# Altium footprint library FlatBoards.PcbLib: 19 footprints (part 1 of 2)
Each footprint in its own frame and in the unit in brackets; x right, y up, seen from the top. Pads: shape width x height; smd on the part's side, far side on the other; paste and mask are expansions set on the pad; w line width, h text height; cw(c..) or ccw(c..) is an arc to the next point about the centre after c.
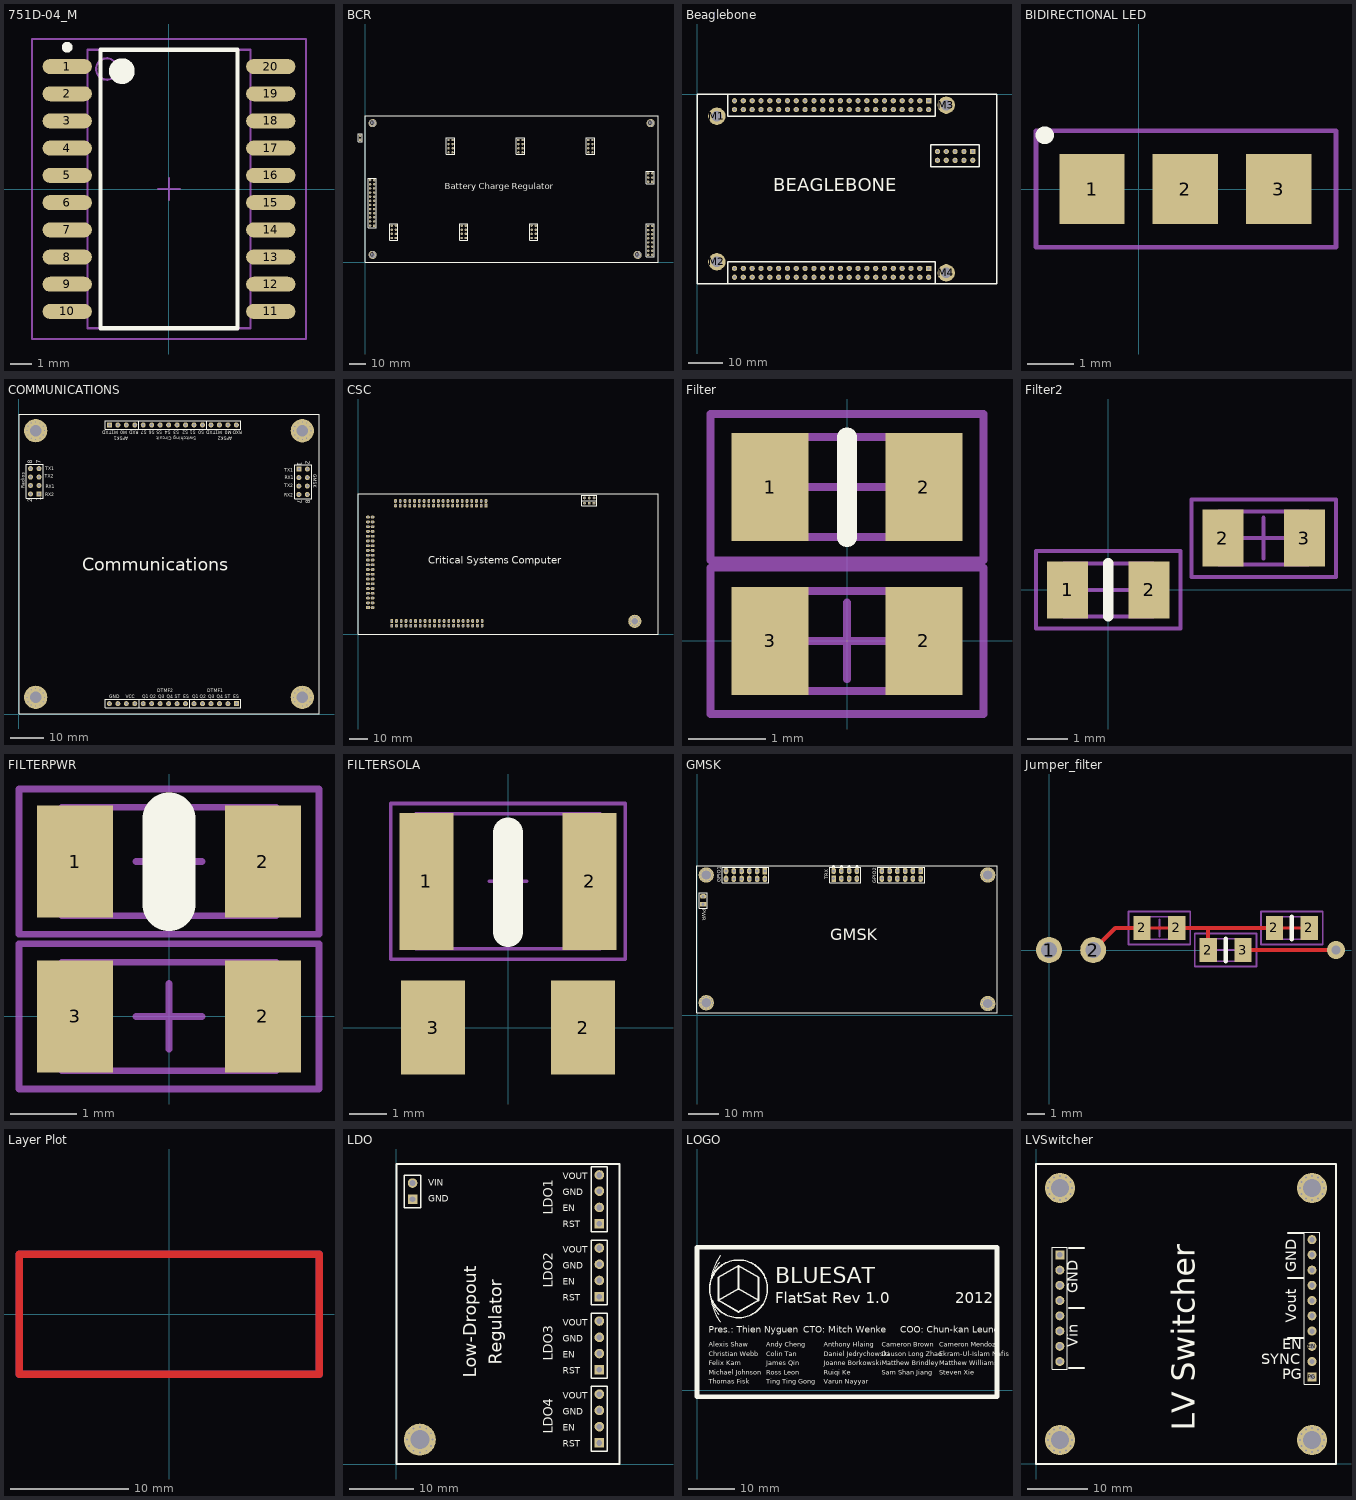
[diagram p0: the footprints below, top view; thin cyan lines are the x and y axes]

## 751D-04_M [mm] "SOIC, 20-Leads, Body 12.8x7.5mm, Pitch 1.27mm, IPC Low Density"
height 2.65
pads (20):
  oval 2.3x0.7 smd: 1(-4.75,5.715) 2(-4.75,4.445) 3(-4.75,3.175) 4(-4.75,1.905) 5(-4.75,0.635) 6(-4.75,-0.635) 7(-4.75,-1.905) 8(-4.75,-3.175) 9(-4.75,-4.445) 10(-4.75,-5.715) 11(4.75,-5.715) 12(4.75,-4.445) 13(4.75,-3.175) 14(4.75,-1.905) 15(4.75,-0.635) 16(4.75,0.635) 17(4.75,1.905) 18(4.75,3.175) 19(4.75,4.445) 20(4.75,5.715)
Top Overlay:
  circle w0.6: c-2.2,5.5 r0.3
  circle w0.25: c-4.75,6.615 r0.125
  lines w0.2: -3.2,-6.5 3.2,-6.5 3.2,6.5 -3.2,6.5 -3.2,-6.5
Mechanical 13:
  circle w0.1: c-2.9,5.6 r0.5
  lines w0.1: -3.8,-6.5 3.8,-6.5 3.8,6.5 -3.8,6.5 -3.8,-6.5
Mechanical 15:
  lines w0.1: -0.5,0 0.5,0 ; 0,-0.5 0,0.5 ; -6.4,-7 6.4,-7 6.4,7 -6.4,7 -6.4,-7
3D body: height 2.65, standoff 0, extent -3.8,-6.5 3.8,6.5

## BCR [mm]
pads (148):
  round 1 hole 0.3: 0(2.5,4.5) 0(2.5,85.5) 0(2.768,3.5) 0(2.768,5.5) 0(2.768,84.5) 0(2.768,86.5) 0(3.5,2.768) 0(3.5,6.232) 0(3.5,83.768) 0(3.5,87.232) 0(4.5,2.5) 0(4.5,6.5) 0(4.5,83.5) 0(4.5,87.5) 0(5.5,2.768) 0(5.5,6.232) 0(5.5,83.768) 0(5.5,87.232) 0(6.232,3.5) 0(6.232,5.5) 0(6.232,84.5) 0(6.232,86.5) 0(6.5,4.5) 0(6.5,85.5) 0(165.5,4.5) 0(165.768,3.5) 0(165.768,5.5) 0(166.5,2.768) 0(166.5,6.232) 0(167.5,2.5) 0(167.5,6.5) 0(168.5,2.768) 0(168.5,6.232) 0(169.232,3.5) 0(169.232,5.5) 0(169.5,4.5) 0(173.5,85.5) 0(173.768,84.5) 0(173.768,86.5) 0(174.5,83.768) 0(174.5,87.232) 0(175.5,83.5) 0(175.5,87.5) 0(176.5,83.768) 0(176.5,87.232) 0(177.232,84.5) 0(177.232,86.5) 0(177.5,85.5)
  round 5 hole 3: 0(4.5,4.5) 0(4.5,85.5) 0(167.5,4.5) 0(175.5,85.5)
  round 1.5 hole 0.9: 1(173.96,49.5) 1(176.5,4.5) 2(173.96,4.5) 3(173.96,54.58) 3(173.96,7.04) 3(173.96,9.58) 3(173.96,12.12) 3(173.96,14.66) 3(173.96,17.2) 3(173.96,19.74) 3(173.96,22.28) 4(176.5,54.58) 4(176.5,22.28) 5(176.5,14.66) 6(176.5,12.12) 7(176.5,9.58) 8(176.5,7.04) 9(176.5,17.2) 10(176.5,19.74) 11(5.5,35.2) 11(5.5,37.74) 11(5.5,40.28) 11(5.5,42.82) 11(5.5,45.36) 11(5.5,47.9) 11(5.5,50.44) 13(5.5,25.04) 13(5.5,27.58) 13(5.5,30.12) 13(5.5,32.66) 14(-3.2,77.79) 14(2.96,22.5) 14(2.96,25.04) 14(2.96,27.58) 14(2.96,30.12) 14(2.96,32.66) 14(2.96,35.2) 14(2.96,37.74) 14(2.96,40.28) 14(2.96,42.82) 14(2.96,45.36) 14(2.96,47.9) 14(2.96,50.44) 15(61.834,17.407) 15(61.834,19.947) 15(61.834,22.487) 16(59.294,17.407) 16(59.294,19.947) 16(59.294,22.487) 17(59.294,14.867) 18(104.834,17.407) 18(104.834,19.947) 18(104.834,22.487) 19(102.294,17.407) 19(102.294,19.947) 19(102.294,22.487) 20(102.294,14.867) 21(18.834,17.407) 21(18.834,19.947) 21(18.834,22.487) 22(16.294,17.407) 22(16.294,19.947) 22(16.294,22.487) 23(16.294,14.867) 24(94.166,67.513) 24(94.166,70.053) 24(94.166,72.593) 25(96.706,67.513) 25(96.706,70.053) 25(96.706,72.593) 26(96.706,75.133) 27(51.166,67.513) 27(51.166,70.053) 27(51.166,72.593) 28(53.706,67.513) 28(53.706,70.053) 28(53.706,72.593) 29(53.706,75.133) 30(137.166,67.513) 30(137.166,70.053) 30(137.166,72.593) 31(139.706,67.513) 31(139.706,70.053) 31(139.706,72.593) 32(139.706,75.133) 34(176.5,52.04) 35(173.96,52.04)
  rect 1.5x1.5 hole 0.9: 12(-3.2,75.25) 13(5.5,22.5) 15(61.834,14.867) 18(104.834,14.867) 21(18.834,14.867) 24(94.166,75.133) 27(51.166,75.133) 30(137.166,75.133) 33(176.5,49.5)
Top Overlay:
  lines w0.2: 177.77,50.982 177.77,55.85 ; 177.77,55.85 177.77,48.23 172.69,48.23 172.69,55.85 177.77,55.85 ; -4.47,73.98 -4.47,79.06 -1.93,79.06 -1.93,73.98 -4.47,73.98 ; 1.69,21.23 6.77,21.23 6.77,51.71 1.69,51.71 1.69,21.23 ; 15.024,13.597 15.024,23.757 20.104,23.757 20.104,13.597 15.024,13.597 ; 49.896,66.243 49.896,76.403 54.976,76.403 54.976,66.243 49.896,66.243 ; 58.024,13.597 58.024,23.757 63.104,23.757 63.104,13.597 58.024,13.597 ; 92.896,66.243 92.896,76.403 97.976,76.403 97.976,66.243 92.896,66.243 ; 101.024,13.597 101.024,23.757 106.104,23.757 106.104,13.597 101.024,13.597 ; 135.896,66.243 135.896,76.403 140.976,76.403 140.976,66.243 135.896,66.243 ; 172.69,3.23 177.77,3.23 177.77,23.55 172.69,23.55 172.69,3.23
  lines w0.254: 0,0 0,90 180,90 180,0 0,0
  text "Battery Charge Regulator" at 49,45 h3.81
Bottom Overlay:
  lines w0.254: 0,0 180,0 180,90 0,90 0,0
  text "Battery Charge Regulator" at 137,45 h3.81

## Beaglebone [mil]
pads (106):
  rect 60x60 hole 31.5 mask+2.76: A01(2625,-75) B01(2625,-1975) P01(3125,-650)
  round 60 hole 31.5 mask+2.76: A02(2625,-175) A03(2525,-75) A04(2525,-175) A05(2425,-75) A06(2425,-175) A07(2325,-75) A08(2325,-175) A09(2225,-75) A10(2225,-175) A11(2125,-75) A12(2125,-175) A13(2025,-75) A14(2025,-175) A15(1925,-75) A16(1925,-175) A17(1825,-75) A18(1825,-175) A19(1725,-75) A20(1725,-175) A21(1625,-75) A22(1625,-175) A23(1525,-75) A24(1525,-175) A25(1425,-75) A26(1425,-175) A27(1325,-75) A28(1325,-175) A29(1225,-75) A30(1225,-175) A31(1125,-75) A32(1125,-175) A33(1025,-75) A34(1025,-175) A35(925,-75) A36(925,-175) A37(825,-75) A38(825,-175) A39(725,-75) A40(725,-175) A41(625,-75) A42(625,-175) A43(525,-75) A44(525,-175) A45(425,-75) A46(425,-175) B02(2625,-2075) B03(2525,-1975) B04(2525,-2075) B05(2425,-1975) B06(2425,-2075) B07(2325,-1975) B08(2325,-2075) B09(2225,-1975) B10(2225,-2075) B11(2125,-1975) B12(2125,-2075) B13(2025,-1975) B14(2025,-2075) B15(1925,-1975) B16(1925,-2075) B17(1825,-1975) B18(1825,-2075) B19(1725,-1975) B20(1725,-2075) B21(1625,-1975) B22(1625,-2075) B23(1525,-1975) B24(1525,-2075) B25(1425,-1975) B26(1425,-2075) B27(1325,-1975) B28(1325,-2075) B29(1225,-1975) B30(1225,-2075) B31(1125,-1975) B32(1125,-2075) B33(1025,-1975) B34(1025,-2075) B35(925,-1975) B36(925,-2075) B37(825,-1975) B38(825,-2075) B39(725,-1975) B40(725,-2075) B41(625,-1975) B42(625,-2075) B43(525,-1975) B44(525,-2075) B45(425,-1975) B46(425,-2075) P02(3125,-750) P03(3025,-650) P04(3025,-750) P05(2925,-650) P06(2925,-750) P07(2825,-650) P08(2825,-750) P09(2725,-650) P10(2725,-750)
  round 196.85 hole 122.05 mask+2.76: M1(225,-250) M2(225,-1900) M3(2825,-125) M4(2825,-2025)
Top Overlay:
  lines w15.75: 350,-2150 350,-1900 2700,-1900 2700,-2150 ; 350,0 350,-250 2700,-250 2700,0 ; 0,-2150 3400,-2150 3400,0 0,0 0,-2150 ; 2650,-825 3200,-825 3200,-575 2650,-575 2650,-825
  text "BEAGLEBONE" at 866.14,-1102.36 h150
Bottom Overlay:
  lines w15.75: 0,-2150 0,0 3400,0 3400,-2150 0,-2150
  text "BEAGLEBONE" at 2322.83,-1102.36 h150

## BIDIRECTIONAL LED [mm]
height 0.7
pads (3):
  rect 1.4x1.5 smd: 1(-1,0) 2(1,0) 3(3,0)
Top Overlay:
  lines w0.381: -2.025,1.15 -2,1.15
Mechanical 15:
  lines w0.1: 2.2,1.25 -2.2,1.25 -2.2,-1.25 4.225,-1.25
  lines w0.102: 2.15,1.25 4.225,1.25 4.225,-1.25

## COMMUNICATIONS [mm] "Communications"
pads (100):
  round 1.5 hole 0.9: AFSK1_M0(32.192,86.733) AFSK1_M1(29.652,86.733) AFSK1_RXD(34.732,86.733) AFSK2_M0(62.672,86.733) AFSK2_M1(60.132,86.733) AFSK2_RXD(65.212,86.733) AFSK2_TXD(57.592,86.733) DTMF1_Q1(52.512,3.113) DTMF1_Q2(55.052,3.113) DTMF1_Q3(57.592,3.113) DTMF1_Q4(60.132,3.113) DTMF1_ST(62.672,3.113) DTMF2_ES(49.972,3.113) DTMF2_Q1(37.272,3.113) DTMF2_Q2(39.812,3.113) DTMF2_Q3(42.352,3.113) DTMF2_Q4(44.892,3.113) DTMF2_ST(47.432,3.113) GMSK_RX1(83.952,70.923) GMSK_RX2(83.952,65.843) GMSK_TX2(83.952,68.383) GND(3.462,66.013) GND(3.462,68.553) GND(3.462,71.093) GND(3.462,73.633) GND(27.112,3.113) GND(29.652,3.113) GND(86.492,65.843) GND(86.492,68.383) GND(86.492,70.923) GND(86.492,73.463) RX1(6.002,68.553) S0(55.052,86.733) S1(52.512,86.733) S2(49.972,86.733) S3(47.432,86.733) S4(44.892,86.733) S5(42.352,86.733) S6(39.812,86.733) S7(37.272,86.733) TX1(6.002,73.633) TX2(6.002,71.093) VCC(32.192,3.113) VCC(34.732,3.113)
  rect 1.5x1.5 hole 0.9: AFSK1_TXD(27.112,86.733) DTMF1_ES(65.212,3.113) GMSK_TX1(83.952,73.463) RX2(6.002,66.013)
  round 1 hole 0.3: ""(2.377,5.013) ""(2.377,85.013) ""(2.729,3.701) ""(2.729,6.325) ""(2.729,83.701) ""(2.729,86.325) ""(3.69,7.286) ""(3.69,87.286) ""(3.69,2.74) ""(3.69,82.74) ""(5.002,2.388) ""(5.002,7.638) ""(5.002,82.388) ""(5.002,87.638) ""(6.314,2.74) ""(6.314,7.286) ""(6.314,82.74) ""(6.314,87.286) ""(7.275,3.701) ""(7.275,83.701) ""(7.275,6.325) ""(7.275,86.325) ""(7.627,5.013) ""(7.627,85.013) ""(82.375,85) ""(82.377,5.013) ""(82.727,83.688) ""(82.727,86.312) ""(82.729,3.701) ""(82.729,6.325) ""(83.688,87.273) ""(83.688,82.727) ""(83.69,7.286) ""(83.69,2.74) ""(85,82.375) ""(85,87.625) ""(85.002,2.388) ""(85.002,7.638) ""(86.312,82.727) ""(86.312,87.273) ""(86.314,2.74) ""(86.314,7.286) ""(87.273,83.688) ""(87.273,86.312) ""(87.275,3.701) ""(87.275,6.325) ""(87.625,85) ""(87.627,5.013)
  round 7 hole 3.5: ""(5.002,5.013) ""(5.002,85.013) ""(85,85) ""(85.002,5.013)
Top Overlay:
  lines w0.2: 35.991,85.463 35.991,87.987 ; 36.01,1.846 36.01,4.37 ; 51.25,1.846 51.25,4.37 ; 56.33,85.463 56.33,87.987 ; 2.192,64.743 7.272,64.743 7.272,74.903 2.192,74.903 2.192,64.743 ; 25.842,1.843 64.577,1.843 66.482,1.843 66.482,4.383 25.842,4.383 25.842,1.843 ; 25.842,85.463 25.842,88.003 27.747,88.003 66.482,88.003 66.482,85.463 25.842,85.463 ; 82.682,64.573 87.762,64.573 87.762,74.733 82.682,74.733 82.682,64.573
  lines w0.254: 0.002,0.013 0.002,90.013 89.502,90.013 90.002,90.013 90.002,0.013 0.002,0.013
  text "RX1" at 8.002,67.713 h1
  text "RX2" at 7.902,65.313 h1
  text "Radios" at 1.752,67.763 h1
  text "TX2" at 7.802,70.813 h1
  text "TX1" at 7.902,73.113 h1
  text "GMSK" at 88.252,72.013 h1
  text "TX1" at 79.502,72.763 h1
  text "RX1" at 79.752,70.513 h1
  text "TX2" at 79.502,68.013 h1
  text "RX2" at 79.502,65.263 h1
  text "TXD" at 27.752,85.013 h1
  text "M0" at 32.502,85.013 h1
  text "M1" at 29.752,85.013 h1
  text "RXD" at 36.002,85.013 h1
  text "AFSK1" at 32.752,83.263 h1
  text "S2" at 50.752,85.013 h1
  text "S3" at 48.002,85.013 h1
  text "S4" at 45.502,85.013 h1
  text "S5" at 43.002,85.013 h1
  text "S6" at 40.752,85.013 h1
  text "S7" at 38.252,85.013 h1
  text "GND" at 27.002,4.763 h1
  text "VCC" at 32.002,4.763 h1
  text "Q1" at 37.002,4.763 h1
  text "DTMF2" at 41.502,6.513 h1
  text "Q2" at 39.252,4.763 h1
  text "Q3" at 41.752,4.763 h1
  text "Q4" at 44.252,4.763 h1
  text "ST" at 46.752,4.763 h1
  text "ES" at 49.252,4.763 h1
  text "ES" at 64.252,4.763 h1
  text "ST" at 61.752,4.763 h1
  text "Q4" at 59.252,4.763 h1
  text "Q3" at 56.752,4.763 h1
  text "Q2" at 54.252,4.763 h1
  text "DTMF1" at 56.502,6.513 h1
  text "Q1" at 52.002,4.763 h1
  text "AFSK2" at 64.002,83.263 h1
  text "RXD" at 67.002,85.013 h1
  text "M1" at 61.002,85.013 h1
  text "M0" at 63.752,85.013 h1
  text "TXD" at 59.002,85.013 h1
  text "S0" at 55.502,85.013 h1
  text "S1" at 53.002,85.013 h1
  text "Switching Circuit" at 53.252,83.263 h1
  text "8" at 3.97,75.157 h1.27
  text "7" at 6.51,75.157 h1.27
  text "1" at 6.51,63.981 h1.27
  text "2" at 3.97,63.473 h1.27
  text "8" at 85.984,64.319 h1.27
  text "7" at 83.444,64.319 h1.27
  text "1" at 83.444,75.495 h1.27
  text "2" at 85.984,76.003 h1.27
  text "Communications" at 19,43 h3.81
Bottom Overlay:
  lines w0.2: 35.991,85.463 35.991,87.987 ; 36.01,1.846 36.01,4.37 ; 51.25,1.846 51.25,4.37 ; 56.33,85.463 56.33,87.987 ; 2.192,64.743 2.192,74.903 7.272,74.903 7.272,64.743 2.192,64.743 ; 25.842,1.843 25.842,4.383 66.482,4.383 66.482,1.843 64.577,1.843 25.842,1.843 ; 25.842,85.463 66.482,85.463 66.482,88.003 27.747,88.003 25.842,88.003 25.842,85.463 ; 82.682,64.573 82.682,74.733 87.762,74.733 87.762,64.573 82.682,64.573
  lines w0.254: 0.002,0.013 90.002,0.013 90.002,90.013 89.502,90.013 0.002,90.013 0.002,0.013
  text "Communications" at 71.5,43 h3.81

## CSC [mm] "Critical Systems Computer"
pads (139):
  rect 1.5x2.1 hole 1.1: C1_1(68.259,68.588) C3_1(17.967,7.12)
  oval 1.5x2.1 hole 1.1: C1_2(68.259,71.128) C1_3(65.719,68.588) C1_4(65.719,71.128) C1_5(63.179,68.588) C1_6(63.179,71.128) C1_7(60.639,68.588) C1_8(60.639,71.128) C1_9(58.099,68.588) C1_10(58.099,71.128) C1_11(55.559,68.588) C1_12(55.559,71.128) C1_13(53.019,68.588) C1_14(53.019,71.128) C1_15(50.479,68.588) C1_16(50.479,71.128) C1_17(47.939,68.588) C1_18(47.939,71.128) C1_19(45.399,68.588) C1_20(45.399,71.128) C1_21(42.859,68.588) C1_22(42.859,71.128) C1_23(40.319,68.588) C1_24(40.319,71.128) C1_25(37.779,68.588) C1_26(37.779,71.128) C1_27(35.239,68.588) C1_28(35.239,71.128) C1_29(32.699,68.588) C1_30(32.699,71.128) C1_31(30.159,68.588) C1_32(30.159,71.128) C1_33(27.619,68.588) C1_34(27.619,71.128) C1_35(25.079,68.588) C1_36(25.079,71.128) C1_37(22.539,68.588) C1_38(22.539,71.128) C1_39(19.999,68.588) C1_40(19.999,71.128) C3_2(17.967,4.58) C3_3(20.507,7.12) C3_4(20.507,4.58) C3_5(23.047,7.12) C3_6(23.047,4.58) C3_7(25.587,7.12) C3_8(25.587,4.58) C3_9(28.127,7.12) C3_10(28.127,4.58) C3_11(30.667,7.12) C3_12(30.667,4.58) C3_13(33.207,7.12) C3_14(33.207,4.58) C3_15(35.747,7.12) C3_16(35.747,4.58) C3_17(38.287,7.12) C3_18(38.287,4.58) C3_19(40.827,7.12) C3_20(40.827,4.58) C3_21(43.367,7.12) C3_22(43.367,4.58) C3_23(45.907,7.12) C3_24(45.907,4.58) C3_25(48.447,7.12) C3_26(48.447,4.58) C3_27(50.987,7.12) C3_28(50.987,4.58) C3_29(53.527,7.12) C3_30(53.527,4.58) C3_31(56.067,7.12) C3_32(56.067,4.58) C3_33(58.607,7.12) C3_34(58.607,4.58) C3_35(61.147,7.12) C3_36(61.147,4.58) C3_37(63.687,7.12) C3_38(63.687,4.58) C3_39(66.227,7.12) C3_40(66.227,4.58)
  rect 2.1x1.5 hole 1.1: C2_1(5.267,14.232)
  oval 2.1x1.5 hole 1.1: C2_2(7.807,14.232) C2_3(5.267,16.772) C2_4(7.807,16.772) C2_5(5.267,19.312) C2_6(7.807,19.312) C2_7(5.267,21.852) C2_8(7.807,21.852) C2_9(5.267,24.392) C2_10(7.807,24.392) C2_11(5.267,26.932) C2_12(7.807,26.932) C2_13(5.267,29.472) C2_14(7.807,29.472) C2_15(5.267,32.012) C2_16(7.807,32.012) C2_17(5.267,34.552) C2_18(7.807,34.552) C2_19(5.267,37.092) C2_20(7.807,37.092) C2_21(5.267,39.632) C2_22(7.807,39.632) C2_23(5.267,42.172) C2_24(7.807,42.172) C2_25(5.267,44.712) C2_26(7.807,44.712) C2_27(5.267,47.252) C2_28(7.807,47.252) C2_29(5.267,49.792) C2_30(7.807,49.792) C2_31(5.267,52.332) C2_32(7.807,52.332) C2_33(5.267,54.872) C2_34(7.807,54.872) C2_35(5.267,57.412) C2_36(7.807,57.412) C2_37(5.267,59.952) C2_38(7.807,59.952) C2_39(5.267,62.492) C2_40(7.807,62.492)
  rect 1.5x1.5 hole 0.9: ISP1(125.877,69.923)
  round 1.5 hole 0.9: ISP2(123.337,69.923) ISP3(120.797,69.923) ISP4(125.877,72.713) ISP5(123.337,72.713) ISP6(120.797,72.713)
  round 1 hole 0.3: ""(145,6.95) ""(145.352,5.638) ""(145.352,8.262) ""(146.313,9.223) ""(146.313,4.677) ""(147.625,4.325) ""(147.625,9.575) ""(148.937,4.677) ""(148.937,9.223) ""(149.898,5.638) ""(149.898,8.262) ""(150.25,6.95)
  round 7 hole 3.5: ""(147.625,6.95)
Top Overlay:
  lines w0.2: 119.397,68.523 127.277,68.523 127.277,71.323 119.397,71.323 ; 119.397,71.313 127.277,71.313 127.277,74.113 119.397,74.113
  lines w0.254: 119.397,68.523 119.397,71.323 ; 119.397,71.313 119.397,74.113 ; 0,0 160,0 160,75 0,75 0,0
  text "Critical Systems Computer" at 37.5,37.5 h3.81
Bottom Overlay:
  lines w0.254: 0,0 160,0 160,75 0,75 0,0 ; 2.037,9.062 2.037,67.662 11.037,67.662 11.037,9.062 2.037,9.062 ; 12.797,1.35 71.397,1.35 71.397,10.35 12.797,10.35 12.797,1.35 ; 14.829,65.358 73.429,65.358 73.429,74.358 14.829,74.358 14.829,65.358
  text "Critical Systems Computer" at 127.5,37.5 h3.81
  text "1" at 14.75,6.5 h1.27
  text "2" at 15,3.75 h1.27
  text "1" at 71.75,69.225 h1.27
  text "2" at 71.4,71.875 h1.27
  text "2" at 8.5,11.25 h1.27
  text "1" at 5.75,11 h1.27

## Filter [mm]
pads (4):
  rect 1x1.4 smd: 1(-1,2) 2(1,0) 2(1,2) 3(-1,0)
Top Overlay:
  lines w0.254: 0,1.35 0,2.65
Mechanical 13:
  lines w0.1: -1.1,-0.65 1.1,-0.65 1.1,0.65 -1.1,0.65 -1.1,-0.65 ; -1.1,1.35 -1.1,2.65 1.1,2.65 1.1,1.35 -1.1,1.35
Mechanical 15:
  lines w0.1: -0.5,0 0.5,0 ; -0.5,2 0.5,2 ; 0,-0.5 0,0.5 ; 0,1.5 0,2.5 ; -1.775,-0.95 1.775,-0.95 1.775,0.95 -1.775,0.95 -1.775,-0.95 ; -1.775,1.05 -1.775,2.95 1.775,2.95 1.775,1.05 -1.775,1.05
3D body: height 0.5, standoff 0, extent -1.1,1.35 1.1,2.65
3D body: height 0.5, standoff 0, extent -1.1,-0.65 1.1,0.65

## Filter2 [mm]
pads (4):
  rect 1x1.4 smd: 1(-1,0) 2(1,0) 2(2.81,1.27) 3(4.81,1.27)
Top Overlay:
  lines w0.254: 0,-0.65 0,0.65
Mechanical 13:
  lines w0.1: -1.1,-0.65 -1.1,0.65 1.1,0.65 1.1,-0.65 -1.1,-0.65 ; 2.71,0.62 4.91,0.62 4.91,1.92 2.71,1.92 2.71,0.62
Mechanical 15:
  lines w0.1: -0.5,0 0.5,0 ; 0,-0.5 0,0.5 ; 3.31,1.27 4.31,1.27 ; 3.81,0.77 3.81,1.77 ; -1.775,-0.95 -1.775,0.95 1.775,0.95 1.775,-0.95 -1.775,-0.95 ; 2.035,0.32 5.585,0.32 5.585,2.22 2.035,2.22 2.035,0.32
3D body: height 0.5, standoff 0, extent 2.71,0.62 4.91,1.92
3D body: height 0.5, standoff 0, extent -1.1,-0.65 1.1,0.65

## FILTERPWR [mm]
pads (4):
  rect 1.15x1.7 smd: 1(-1.425,2.35) 2(1.425,0) 2(1.425,2.35) 3(-1.425,0)
Top Overlay:
  lines w0.8: 0,1.7 0,3
Mechanical 13:
  lines w0.1: -1.625,-0.825 -1.625,0.825 1.625,0.825 1.625,-0.825 -1.625,-0.825 ; -1.625,1.525 1.625,1.525 1.625,3.175 -1.625,3.175 -1.625,1.525
Mechanical 15:
  lines w0.1: -0.5,0 0.5,0 ; -0.5,2.35 0.5,2.35 ; 0,-0.5 0,0.5 ; 0,1.85 0,2.85 ; -2.275,-1.1 -2.275,1.1 2.275,1.1 2.275,-1.1 -2.275,-1.1 ; -2.275,1.25 2.275,1.25 2.275,3.45 -2.275,3.45 -2.275,1.25
3D body: height 0.7, standoff 0, extent -1.625,1.525 1.625,3.175
3D body: height 0.7, standoff 0, extent -1.625,-0.825 1.625,0.825

## FILTERSOLA [mm]
pads (4):
  rect 1.45x3.65 smd: 1(-2.175,3.9) 2(2.175,3.9)
  rect 1.7x2.5 smd: 2(2,0) 3(-2,0)
Top Overlay:
  lines w0.8: 0,2.55 0,5.2
Mechanical 13:
  lines w0.1: -2.45,2.1 -2.45,5.7 2.45,5.7 2.45,2.1 -2.45,2.1
Mechanical 15:
  lines w0.1: -0.5,3.9 0.5,3.9 ; 0,3.4 0,4.4 ; -3.125,1.825 -3.125,5.975 3.125,5.975 3.125,1.825 -3.125,1.825
3D body: height 2, standoff 0, extent -2.45,2.1 2.45,5.7

## GMSK [mm] "Foot print of GMSK for the flatsat board"
pads (86):
  rect 1.5x2.1 hole 1: 1A(22.15,47.03) 1B(73.05,47.08) 1C(44.59,44.54)
  oval 1.5x2.1 hole 1: 2A(22.15,44.49) 2B(73.05,44.54) 3A(19.61,47.03) 3B(70.51,47.08) 3C(47.13,44.54) 4A(19.61,44.49) 4B(70.51,44.54) 5A(17.07,47.03) 5B(67.97,47.08) 5C(49.67,44.54) 6A(17.07,44.49) 6B(67.97,44.54) 7A(14.53,47.03) 7B(65.43,47.08) 7C(52.21,44.54) 8A(14.53,44.49) 8B(65.43,44.54) 8C(9.45,47.03) 8C(44.59,47.08) 8C(47.13,47.08) 8C(49.67,47.08) 8C(52.21,47.08) 8C(60.35,47.08) 9A(11.99,47.03) 9B(62.89,47.08) 10A(11.99,44.49) 10B(62.89,44.54) 12A(9.45,44.49) 12B(60.35,44.54)
  oval 2.1x1.5 hole 1: 2C(1.97,38.74)
  rect 2.1x1.5 hole 1: 8C(1.97,36.2)
  round 1 hole 0.3: ""(0.97,45.74) ""(1,4) ""(1.238,44.74) ""(1.238,46.74) ""(1.268,3) ""(1.268,5) ""(1.97,44.008) ""(1.97,47.472) ""(2,2.268) ""(2,5.732) ""(2.97,43.74) ""(2.97,47.74) ""(3,2) ""(3,6) ""(3.97,44.008) ""(3.97,47.472) ""(4,2.268) ""(4,5.732) ""(4.702,44.74) ""(4.702,46.74) ""(4.732,3) ""(4.732,5) ""(4.97,45.74) ""(5,4) ""(92.97,3.74) ""(92.97,45.74) ""(93.238,2.74) ""(93.238,4.74) ""(93.238,44.74) ""(93.238,46.74) ""(93.97,2.008) ""(93.97,5.472) ""(93.97,44.008) ""(93.97,47.472) ""(94.97,1.74) ""(94.97,5.74) ""(94.97,43.74) ""(94.97,47.74) ""(95.97,2.008) ""(95.97,5.472) ""(95.97,44.008) ""(95.97,47.472) ""(96.702,2.74) ""(96.702,4.74) ""(96.702,44.74) ""(96.702,46.74) ""(96.97,3.74) ""(96.97,45.74)
  round 5 hole 3: ""(2.97,45.74) ""(3,4) ""(94.97,3.74) ""(94.97,45.74)
Top Overlay:
  lines w0.2: 0.7,34.93 0.7,40.01 3.24,40.01 3.24,34.93 0.7,34.93 ; 8.18,43.22 23.42,43.22 23.42,48.3 8.18,48.3 8.18,43.22 ; 43.32,43.27 43.32,48.35 53.48,48.35 53.48,43.27 43.32,43.27 ; 59.08,43.27 74.32,43.27 74.32,48.35 59.08,48.35 59.08,43.27
  lines w0.254: 44.17,48.64 44.97,48.64 ; 44.37,48.94 44.77,48.94 ; 46.77,48.64 47.57,48.64 ; 46.97,48.94 47.37,48.94 ; 49.27,48.64 50.07,48.64 ; 49.47,48.94 49.87,48.94 ; 51.87,48.64 52.67,48.64 ; 52.07,48.94 52.47,48.94 ; -0.03,0.74 -0.03,48.74 97.97,48.74 97.97,0.74 -0.03,0.74
  text "GMSK" at 43.5,24.5 h3.81
  text "GPIO1" at 7.7,43.325 h1.2
  text "TRX" at 42.85,44.4 h1.2
  text "GPIO2" at 58.575,43.025 h1.2
  text "PWR" at 1.625,34.55 h1.2
Bottom Overlay:
  lines w0.254: -0.03,0.74 -0.03,48.74 97.97,48.74 97.97,0.74 ; -0.03,0.74 97.97,0.74 ; -0.03,0.74 49.97,0.74 97.97,0.74
  text "GMSK" at 57.5,24.5 h3.81
3D body: height 2.54, standoff 0, extent 0.8,35.03 3.14,39.91
3D body: height 2.54, standoff 0, extent 59.18,43.355 74.23,48.255
3D body: height 2.54, standoff 0, extent 8.28,43.305 23.33,48.205
3D body: height 2.54, standoff 0, extent 43.42,43.37 53.38,48.25
3D body: height 7.01, standoff 1.01, extent 1.471,35.704 2.469,36.7
3D body: height 7.01, standoff 1.01, extent 1.471,38.244 2.469,39.24
3D body: height 7.01, standoff 1.01, extent 72.55,44.041 73.546,45.039
3D body: height 7.01, standoff 1.01, extent 70.01,44.041 71.006,45.039
3D body: height 7.01, standoff 1.01, extent 67.47,44.041 68.466,45.039
3D body: height 7.01, standoff 1.01, extent 64.93,44.041 65.926,45.039
3D body: height 7.01, standoff 1.01, extent 62.39,44.041 63.386,45.039
3D body: height 7.01, standoff 1.01, extent 59.85,44.041 60.846,45.039
3D body: height 7.01, standoff 1.01, extent 59.85,46.581 60.846,47.579
3D body: height 7.01, standoff 1.01, extent 62.39,46.581 63.386,47.579
3D body: height 7.01, standoff 1.01, extent 64.93,46.581 65.926,47.579
3D body: height 7.01, standoff 1.01, extent 67.47,46.581 68.466,47.579
3D body: height 7.01, standoff 1.01, extent 70.01,46.581 71.006,47.579
3D body: height 7.01, standoff 1.01, extent 72.55,46.581 73.546,47.579
3D body: height 7.01, standoff 1.01, extent 21.65,43.991 22.646,44.989
3D body: height 7.01, standoff 1.01, extent 19.11,43.991 20.106,44.989
3D body: height 7.01, standoff 1.01, extent 16.57,43.991 17.566,44.989
3D body: height 7.01, standoff 1.01, extent 14.03,43.991 15.026,44.989
3D body: height 7.01, standoff 1.01, extent 11.49,43.991 12.486,44.989
3D body: height 7.01, standoff 1.01, extent 8.95,43.991 9.946,44.989
3D body: height 7.01, standoff 1.01, extent 8.95,46.531 9.946,47.529
3D body: height 7.01, standoff 1.01, extent 11.49,46.531 12.486,47.529
3D body: height 7.01, standoff 1.01, extent 14.03,46.531 15.026,47.529
3D body: height 7.01, standoff 1.01, extent 16.57,46.531 17.566,47.529
3D body: height 7.01, standoff 1.01, extent 19.11,46.531 20.106,47.529
3D body: height 7.01, standoff 1.01, extent 21.65,46.531 22.646,47.529
3D body: height 7.01, standoff 1.01, extent 44.094,46.581 45.09,47.579
3D body: height 7.01, standoff 1.01, extent 46.634,46.581 47.63,47.579
3D body: height 7.01, standoff 1.01, extent 49.174,46.581 50.17,47.579
3D body: height 7.01, standoff 1.01, extent 51.714,46.581 52.71,47.579
3D body: height 7.01, standoff 1.01, extent 51.714,44.041 52.71,45.039
3D body: height 7.01, standoff 1.01, extent 49.174,44.041 50.17,45.039
3D body: height 7.01, standoff 1.01, extent 46.634,44.041 47.63,45.039
3D body: height 7.01, standoff 1.01, extent 44.094,44.041 45.09,45.039

## Jumper_filter [mm] "Connector; Header; 2 Position"
pads (8):
  round 1.5 hole 0.9: 1(0,0) 2(2.54,0)
  rect 1x1.4 smd: 2(5.35,1.27) 2(7.35,1.27) 2(9.16,0) 2(12.97,1.27) 2(14.97,1.27) 3(11.16,0)
via 16.51,0 diameter 1.016 hole 0.508
Top Layer:
  lines w0.152: 5.334,1.27 14.986,1.27 ; 7.366,1.016 7.366,1.27
  lines w0.254: 2.54,0 3.81,1.27 5.08,1.27 ; 7.366,1.27 12.954,1.27 ; 9.144,0 9.144,1.27 ; 11.43,0 16.51,0
Top Overlay:
  lines w0.254: 10.16,-0.65 10.16,0.65 ; 13.97,0.62 13.97,1.92
Mechanical 13:
  lines w0.1: 5.25,0.62 7.45,0.62 7.45,1.92 5.25,1.92 5.25,0.62 ; 9.06,-0.65 11.26,-0.65 11.26,0.65 9.06,0.65 9.06,-0.65 ; 12.87,0.62 12.87,1.92 15.07,1.92 15.07,0.62 12.87,0.62
Mechanical 15:
  lines w0.1: 5.85,1.27 6.85,1.27 ; 6.35,0.77 6.35,1.77 ; 9.66,0 10.66,0 ; 10.16,-0.5 10.16,0.5 ; 13.47,1.27 14.47,1.27 ; 13.97,0.77 13.97,1.77 ; 4.575,0.32 8.125,0.32 8.125,2.22 4.575,2.22 4.575,0.32 ; 8.385,-0.95 11.935,-0.95 11.935,0.95 8.385,0.95 8.385,-0.95 ; 12.195,0.32 12.195,2.22 15.745,2.22 15.745,0.32 12.195,0.32
3D body: height 0.5, standoff 0, extent 12.87,0.62 15.07,1.92
3D body: height 0.5, standoff 0, extent 9.06,-0.65 11.26,0.65
3D body: height 0.5, standoff 0, extent 5.25,0.62 7.45,1.92

## Layer Plot [mm]
Top Layer:
  lines w0.635: -12.7,-5.08 -12.7,5.08 12.7,5.08 12.7,-5.08 -12.7,-5.08
  text "1" at -11.176,-3.81 h7.62
Bottom Layer:
  lines w0.635: -12.7,-5.08 -12.7,5.08 12.7,5.08 12.7,-5.08 -12.7,-5.08
  text "4" at 6.604,-3.81 h7.62
InternalPlane1:
  pour cut-out: 1.016,4.445 1.016,4.75 -12.37,4.75 -12.37,-4.75 12.37,-4.75 12.37,4.75 1.016,4.75 1.016,4.445 -0.635,2.794 -0.635,2.286 -0.254,1.905 0.254,1.905 1.524,3.175 3.556,3.175 4.445,2.286 4.445,1.524 4.42,1.524 3.531,0.635 2.286,0.635 1.905,0.254 1.905,-0.254 2.286,-0.635 3.556,-0.635 4.445,-1.524 4.445,-2.286 3.556,-3.175 1.524,-3.175 0.254,-1.905 -0.254,-1.905 -0.635,-2.286 -0.635,-2.794 1.016,-4.445 4.064,-4.445 5.715,-2.794 5.715,-1.016 4.699,0 5.715,1.016 5.715,2.794 4.064,4.445
  lines w0.635: -12.7,-5.08 -12.7,5.08 12.7,5.08 12.7,-5.08 -12.7,-5.08
InternalPlane2:
  pour cut-out: -5.791,4.42 -5.791,4.75 -12.37,4.75 -12.37,-4.75 12.37,-4.75 12.37,4.75 -5.791,4.75 -5.791,4.42 -7.417,2.794 -7.417,2.235 -7.061,1.88 -6.528,1.88 -5.258,3.15 -3.251,3.15 -2.362,2.261 -2.362,1.499 -7.442,-3.581 -7.442,-4.064 -7.036,-4.47 -1.499,-4.47 -1.092,-4.064 -1.092,-3.658 -1.549,-3.2 -5.283,-3.2 -5.283,-3.175 -1.092,1.016 -1.092,2.692 -2.819,4.42
  lines w0.635: -12.7,-5.08 -12.7,5.08 12.7,5.08 12.7,-5.08 -12.7,-5.08

## LDO [mm] "Low-dropout Regulator"
pads (31):
  round 1.5 hole 0.9: EN1(31.75,40.132) EN2(31.75,28.702) EN3(31.75,17.272) EN4(31.75,5.842) GND(31.75,8.382) GND(31.75,19.812) GND(31.75,31.242) GND(31.75,42.672) VIN(2.54,43.942) VOUT1(31.75,45.212) VOUT2(31.75,33.782) VOUT3(31.75,22.352) VOUT4(31.75,10.922)
  rect 1.5x1.5 hole 0.9: GND(2.54,41.402) RST1(31.75,37.592) RST2(31.75,26.162) RST3(31.75,14.732) RST4(31.75,3.302)
  round 1 hole 0.3: ""(1.683,3.81) ""(1.951,2.81) ""(1.951,4.81) ""(2.683,2.078) ""(2.683,5.542) ""(3.683,1.81) ""(3.683,5.81) ""(4.683,2.078) ""(4.683,5.542) ""(5.415,2.81) ""(5.415,4.81) ""(5.683,3.81)
  round 5 hole 3: ""(3.683,3.81)
Top Overlay:
  lines w0.2: 1.24,40.11 3.78,40.11 3.78,45.19 1.24,45.19 1.24,40.11 ; 30.45,2.01 32.99,2.01 32.99,12.17 30.45,12.17 30.45,2.01 ; 30.45,13.44 32.99,13.44 32.99,23.6 30.45,23.6 30.45,13.44 ; 30.45,24.87 32.99,24.87 32.99,35.03 30.45,35.03 30.45,24.87 ; 30.45,36.3 32.99,36.3 32.99,46.46 30.45,46.46 30.45,36.3
  lines w0.3: 0,0 0,46.9 34.9,46.9 34.9,0 0,0
  text "VIN" at 5,43.5 h1
  text "GND" at 5,41 h1
  text "VOUT" at 26,44.5 h1
  text "GND" at 26,42 h1
  text "EN" at 26,39.5 h1
  text "RST" at 26,37 h1
  text "LDO1" at 24.5,39 h1.5
  text "LDO2" at 24.5,27.57 h1.5
  text "RST" at 26,25.57 h1
  text "EN" at 26,28.07 h1
  text "GND" at 26,30.57 h1
  text "VOUT" at 26,33.07 h1
  text "LDO3" at 24.5,16.14 h1.5
  text "RST" at 26,14.14 h1
  text "EN" at 26,16.64 h1
  text "GND" at 26,19.14 h1
  text "VOUT" at 26,21.64 h1
  text "LDO4" at 24.5,4.71 h1.5
  text "RST" at 26,2.71 h1
  text "EN" at 26,5.21 h1
  text "GND" at 26,7.71 h1
  text "VOUT" at 26,10.21 h1
  text "Low-Dropout" at 12.5,13.5 h2
  text "Regulator" at 16.5,15.5 h2
Bottom Overlay:
  lines w0.2: 1.27,40.132 1.27,45.212 3.81,45.212 3.81,40.132 1.27,40.132 ; 30.48,2.032 30.48,12.192 33.02,12.192 33.02,2.032 30.48,2.032 ; 30.48,13.462 30.48,23.622 33.02,23.622 33.02,13.462 30.48,13.462 ; 30.48,24.892 30.48,35.052 33.02,35.052 33.02,24.892 30.48,24.892 ; 30.48,36.322 30.48,46.482 33.02,46.482 33.02,36.322 30.48,36.322
  lines w0.3: 0.03,0.022 34.93,0.022 34.93,46.922 0.03,46.922 0.03,0.022
  text "Regulator" at 16.5,31.5 h2
  text "Low-Dropout" at 13,34 h2

## LOGO [mm]
Top Overlay:
  circle w0.3: c9,22 r6.25
  lines w0.2: 4.717,16.473 cw(c11.5,22) 4.839,27.674 ; 5.011,14.83 cw(c15.25,22) 5.011,29.17
  lines w0.4: 4.67,19.5 9,22 ; 4.67,19.5 4.67,24.5 9,27 ; 4.67,19.5 9,17 13.33,19.5 ; 9,22 9,27 ; 9,22 13.33,19.5 ; 9,27 13.33,24.5 13.33,19.5
  lines w1.016: 0,-1.397 0,31 65,31 65,-1.397 0,-1.397
  text "BLUESAT" at 17,22 h6
  text "FlatSat Rev 1.0" at 17,18 h4
  text "2012" at 56,18 h4
  text "Pres.: Thien Nyguen" at 2.5,12 h2.5
  text "CTO: Mitch Wenke" at 23,12 h2.5
  text "COO: Chun-kan Leung" at 44,12 h2.5
  text "Alexis Shaw" at 2.5,9 h1.8
  text "Andy Cheng" at 15,9 h1.8
  text "Anthony Hlaing" at 27.5,9 h1.8
  text "Cameron Brown" at 40,9 h1.8
  text "Cameron Mendoza" at 52.5,9 h1.8
  text "Ekram-Ul-Islam Nafis" at 52.5,7 h1.8
  text "Dauson Long Zhao" at 40,7 h1.8
  text "Daniel Jedrychowski" at 27.5,7 h1.8
  text "Colin Tan" at 15,7 h1.8
  text "Christian Webb" at 2.5,7 h1.8
  text "Matthew Williams" at 52.5,5 h1.8
  text "Matthew Brindley" at 40,5 h1.8
  text "Joanne Borkowski" at 27.5,5 h1.8
  text "James Qin" at 15,5 h1.8
  text "Felix Kam" at 2.5,5 h1.8
  text "Steven Xie" at 52.5,3 h1.8
  text "Sam Shan Jiang" at 40,3 h1.8
  text "Ruiqi Ke" at 27.5,3 h1.8
  text "Ross Leon" at 15,3 h1.8
  text "Michael Johnson" at 2.5,3 h1.8
  text "Thomas Fisk" at 2.5,0.993 h1.8
  text "Ting Ting Gong" at 15,0.993 h1.8
  text "Varun Nayyar" at 27.497,0.993 h1.8

## LVSwitcher [mm] "Low-Voltage Switching Regulator"
pads (70):
  round 1.5 hole 0.9: EN(46,19.615) GND(3.975,27.235) GND(3.975,29.775) GND(3.975,32.315) GND(46,32.315) GND(46,34.855) GND(46,37.395) SYNC(46,17.075) Vin(3.975,17.075) Vin(3.975,19.615) Vin(3.975,22.155) Vin(3.975,24.695) Vout(46,22.155) Vout(46,24.695) Vout(46,27.235) Vout(46,29.775)
  rect 1.5x1.5 hole 0.9: GND(3.975,34.855) PG(46,14.535)
  round 1 hole 0.3: ""(2,4) ""(2,46) ""(2.268,3) ""(2.268,5) ""(2.268,45) ""(2.268,47) ""(3,2.268) ""(3,5.732) ""(3,44.268) ""(3,47.732) ""(4,2) ""(4,6) ""(4,44) ""(4,48) ""(5,2.268) ""(5,5.732) ""(5,44.268) ""(5,47.732) ""(5.732,3) ""(5.732,5) ""(5.732,45) ""(5.732,47) ""(6,4) ""(6,46) ""(44,4) ""(44,46) ""(44.268,3) ""(44.268,5) ""(44.268,45) ""(44.268,47) ""(45,2.268) ""(45,5.732) ""(45,44.268) ""(45,47.732) ""(46,2) ""(46,6) ""(46,44) ""(46,48) ""(47,2.268) ""(47,5.732) ""(47,44.268) ""(47,47.732) ""(47.732,3) ""(47.732,5) ""(47.732,45) ""(47.732,47) ""(48,4) ""(48,46)
  round 5 hole 3: ""(4,4) ""(4,46) ""(46,4) ""(46,46)
Top Overlay:
  lines w0.2: 2.705,15.805 2.705,36.125 5.245,36.125 5.245,15.805 2.705,15.805 ; 44.73,13.265 47.27,13.265 47.27,38.665 44.73,38.665 44.73,15.17 44.73,13.265
  lines w0.254: 5.5,16 8,16 ; 5.5,26 8,26 ; 5.5,36 8,36 ; 42,21 44.5,21 ; 42,31 44.5,31 ; 42,38.5 44.5,38.5 ; 0,0 0,50 50,50 50,0 0,0
  text "LV Switcher" at 26.5,5.5 h3.81
  text "GND" at 7.5,28.5 h3
  text "Vin" at 7.5,19.5 h3
  text "GND" at 44,32 h3
  text "Vout" at 44,23.5 h3
  text "PG" at 41,13.5 h3
  text "SYNC" at 37.5,16 h3
  text "EN" at 41,18.5 h3
Bottom Overlay:
  lines w0.2: 2.705,15.805 5.245,15.805 5.245,36.125 2.705,36.125 2.705,15.805 ; 44.73,13.265 44.73,15.17 44.73,38.665 47.27,38.665 47.27,13.265 44.73,13.265
  lines w0.254: 0,0 50,0 50,50 0,50 0,0
  text "LV Switcher" at 26.5,44.5 h3.81